# EAGLE library part NRF24_PLUG (library My_flight)
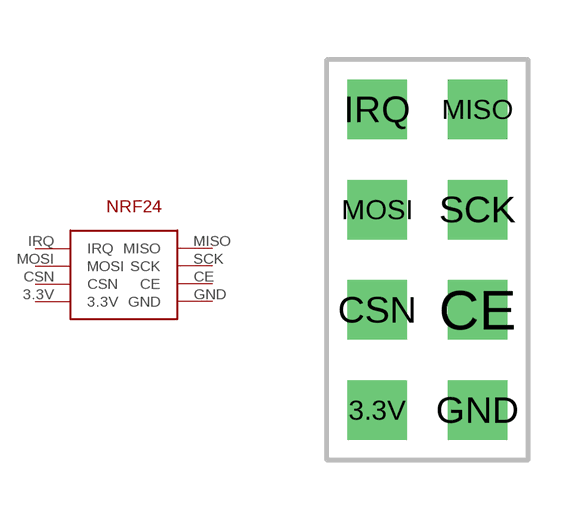
[diagram p0: symbol with the pads of NRF24_PLUG; footprint NRF24_PLUG]

Designator prefix -

## NRF24_PLUG  [NRF24_PLUG]
3.3V  3.3V
CE  CE
CSN  CSN
GND  GND
IRQ  IRQ
MISO  MISO
MOSI  MOSI
SCK  SCK

## Footprint NRF24_PLUG (pad centres in mm)
drill 1 square: 3.3V -1.27,-2.54; CE 1.27,0; CSN -1.27,0; GND 1.27,-2.54; IRQ -1.27,5.08; MISO 1.27,5.08; MOSI -1.27,2.54; SCK 1.27,2.54